# EAGLE library part SSW-117-22-XXX-D-VS (library samtec)
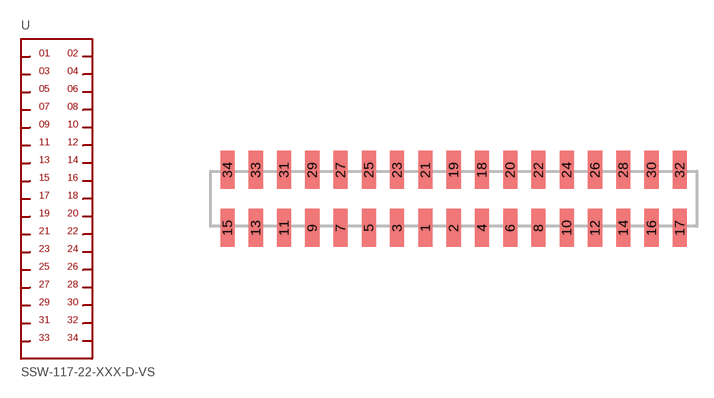
[diagram p13: symbol with the pads of SSW-117-22-XXX-D-VS; footprint SSW-117-22-XXX-D-VS]

Designator prefix -

## SSW-117-22-XXX-D-VS  [SSW-117-22-XXX-D-VS]
1  1
2  2
3  3
4  4
5  5
6  6
7  7
8  8
9  9
10  10
11  11
12  12
13  13
14  14
15  15
16  16
17  17
18  18
19  19
20  20
21  21
22  22
23  23
24  24
25  25
26  26
27  27
28  28
29  29
30  30
31  31
32  32
33  33
34  34

## Footprint SSW-117-22-XXX-D-VS (pad centres in mm)
0.100 inch (2.54MM) PITCH SURFACE ASSEMBLY
smd 1.27 x 3.429: 1 -2.54,-2.603; 2 0,-2.603; 3 -5.08,-2.603; 4 2.54,-2.603; 5 -7.62,-2.603; 6 5.08,-2.603; 7 -10.16,-2.603; 8 7.62,-2.603; 9 -12.7,-2.603; 10 10.16,-2.603; 11 -15.24,-2.603; 12 12.7,-2.603; 13 -17.78,-2.603; 14 15.24,-2.603; 15 -20.32,-2.603; 16 17.78,-2.603; 17 20.32,-2.603; 18 2.54,2.603; 19 0,2.603; 20 5.08,2.603; 21 -2.54,2.603; 22 7.62,2.603; 23 -5.08,2.603; 24 10.16,2.603; 25 -7.62,2.603; 26 12.7,2.603; 27 -10.16,2.603; 28 15.24,2.603; 29 -12.7,2.603; 30 17.78,2.603; 31 -15.24,2.603; 32 20.32,2.603; 33 -17.78,2.603; 34 -20.32,2.603